# EAGLE library part TE-282834-6 (library OpenSourceSyringePump)
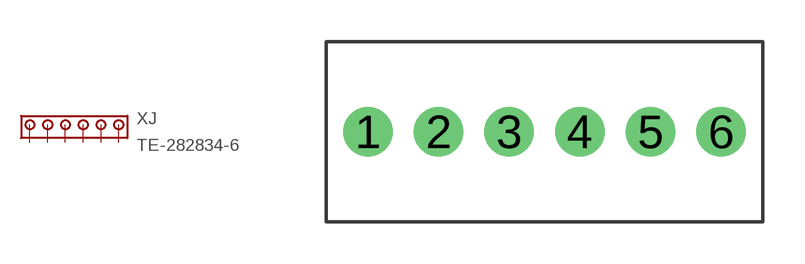
[diagram p2: symbol with the pads of TE-282834-6; footprint TE-282834-6]

Designator prefix XJ

## TE-282834-6  [TE-282834-6]
1  1  pas
2  2  pas
3  3  pas
4  4  pas
5  5  pas
6  6  pas

## Footprint TE-282834-6 (pad centres in mm)
drill 0.94 pad 1.778: 1 -6.35,0; 2 -3.81,0; 3 -1.27,0; 4 1.27,0; 5 3.81,0; 6 6.35,0